# Altium footprint library Test Point and Jumper.PcbLib: 34 footprints (part 2 of 3)
Each footprint in its own frame and in the unit in brackets; x right, y up, seen from the top. Pads: shape width x height; smd on the part's side, far side on the other; paste and mask are expansions set on the pad; w line width, h text height; cw(c..) or ccw(c..) is an arc to the next point about the centre after c.
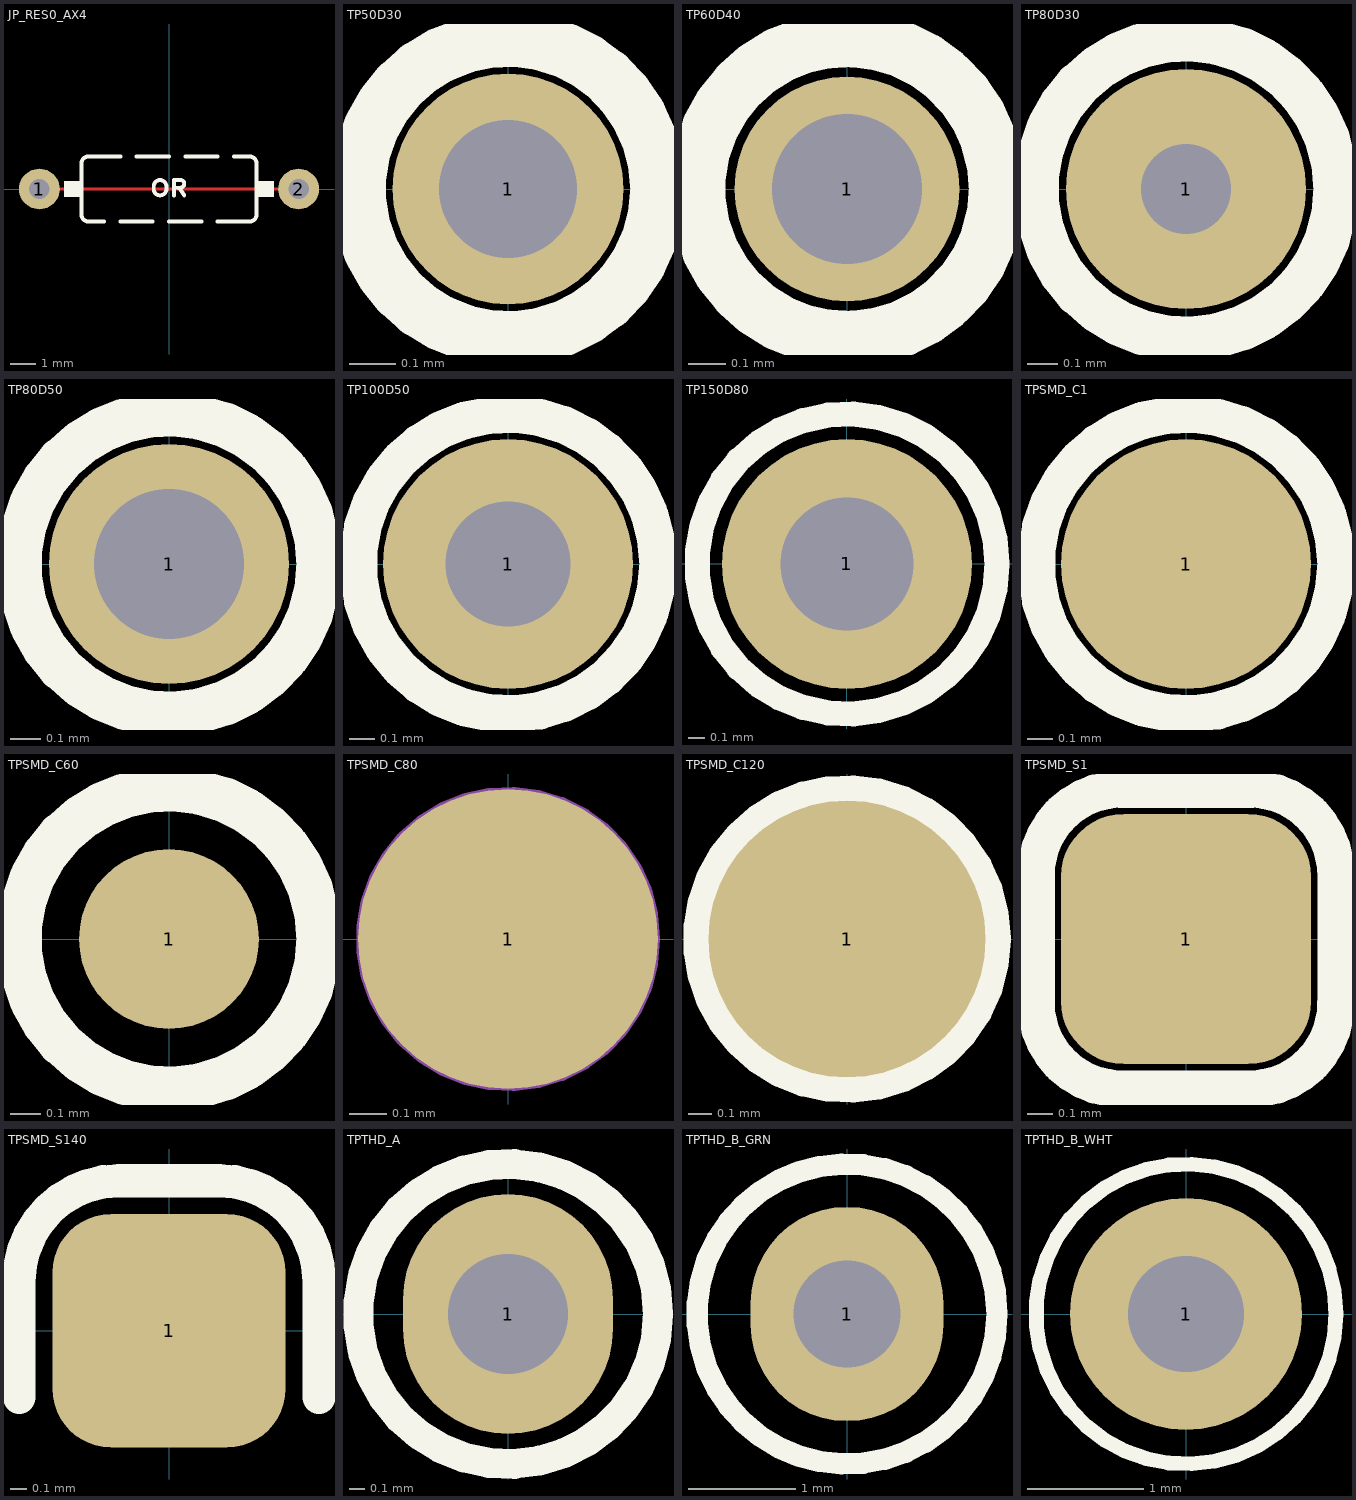
[diagram p1: the footprints below, top view; thin cyan lines are the x and y axes]

## JP_RES0_AX4 [mil] "0 Ohm Jumper Resistor"
pads (2):
  round 63 hole 31.5: 1(-200,0) 2(200,0)
Top Layer:
  lines w3.94: -200,0 200,0
Top Overlay:
  rectangle: -162,-12 -135,12
  rectangle: 135,-12 162,12
  lines w5.91: 7.87,-9.84 7.87,13.78 17.72,13.78 cw(c17.72,7.87) 23.62,7.87 cw(c17.72,7.87) 17.72,1.97 7.87,1.97 ; 11.81,1.97 cw(c11.81,-5.91) 17.38,-0.34 23.62,-9.84 ; -23.62,0 ccw(c-13.78,0) -13.78,-9.84 ccw(c-13.78,0) -3.94,0 -3.94,3.94 ccw(c-13.78,3.94) -13.78,13.78 ccw(c-13.78,3.94) -23.62,3.94 -23.62,0
  lines w6: -100,-50 -125,-50 cw(c-125,-40) -135,-40 -135,40 cw(c-125,40) -125,50 -75,50 ; -75,-50 -25,-50 ; -50,50 0,50 ; 0,-50 50,-50 ; 25,50 75,50 ; 75,-50 125,-50 ccw(c125,-40) 135,-40 135,40 ccw(c125,40) 125,50 100,50
3D body "SW3dPS-AXIAL_RESISTOR(0.25W).STEP": height 102.36, standoff -59.06, extent -215.74,-47.24 215.75,47.25

## TP50D30 [mm] "TEST POINT 0.5mm WITH 0.3 mm Hole Diameter"
height 7.62
pads (1):
  round 0.5 hole 0.3 mask+0.025: 1(0,0)
Top Overlay:
  circle w0.12: c0,0 r0.325

## TP60D40 [mm] "TEST POINT 0.6mm WITH 0.4 mm Hole Diameter"
pads (1):
  round 0.6 hole 0.4 mask+0.025: 1(0,0)
Top Overlay:
  circle w0.15: c0,0 r0.4

## TP80D30 [mm] "TEST POINT 0.8mm WITH 0.3 mm Hole Diameter"
pads (1):
  round 0.8 / inner round 0.5 / far side round 0.5 hole 0.3 mask+0.025: 1(0,0)
Top Overlay:
  circle w0.15: c0,0 r0.5

## TP80D50 [mm]
pads (1):
  round 0.8 hole 0.5 mask+0.025: 1(0,0)
Top Overlay:
  circle w0.15: c0,0 r0.5

## TP100D50 [mm]
pads (1):
  round 1 hole 0.5 mask+0.025: 1(0,0)
Top Overlay:
  circle w0.15: c0,0 r0.6

## TP150D80 [mm] "TEST POINT 1.5mm WITH 0.8 mm Hole Diameter"
pads (1):
  round 1.5 hole 0.8 mask+0.075: 1(0,0)
Top Overlay:
  circle w0.15: c0,0 r0.9

## TPSMD_C1 [mm] "Test Point, SMD Pad, Circle, 1mm X 1mm"
pads (1):
  round 1 smd paste-1.016 mask+0.025: 1(0,0)
Top Overlay:
  circle w0.15: c0,0 r0.6

## TPSMD_C60 [mm] "Test Point, SMD Pad, Circle, 0.6mm X 0.6mm"
pads (1):
  round 0.6 smd paste-0.635 mask+0.051: 1(0,0)
Top Overlay:
  circle w0.15: c0,0 r0.5

## TPSMD_C80 [mm] "Test Point, SMD Pad, Circle, 0.8mm X 0.8mm"
pads (1):
  round 0.8 smd paste-0.762 mask+0.076: 1(0,0)
Mechanical 13:
  circle w0.05: c0,0 r0.381

## TPSMD_C120 [mm] "Test Point, SMD Pad, Circle, 1.2mm X1.2mm"
height 7.62
pads (1):
  round 1.2 smd mask+0: 1(0,0)
Top Overlay:
  circle w0.12: c0,0 r0.65

## TPSMD_S1 [mm] "Test Point, SMD Pad, Circle, 1mm X 1mm"
pads (1):
  rrect50% 1x1 smd paste-1.016 mask+0.025: 1(0,0)
Top Overlay:
  lines w0.15: -0.6,-0.259 ccw(c-0.259,-0.259) -0.259,-0.6 0.259,-0.6 ccw(c0.259,-0.259) 0.6,-0.259 0.6,0.259 ccw(c0.259,0.259) 0.259,0.6 -0.259,0.6 ccw(c-0.259,0.259) -0.6,0.259 -0.6,-0.259

## TPSMD_S140 [mm] "Test Point, SMD Pad, Square, 1.4mm X1.4mm"
height 2
pads (1):
  rrect50% 1.4x1.4 smd mask+0.1: 1(0,0)
Top Overlay:
  lines w0.2: -0.9,-0.4 -0.9,0.3 cw(c-0.3,0.3) -0.3,0.9 0.3,0.9 cw(c0.3,0.3) 0.9,0.3 0.9,-0.4

## TPTHD_A [mm] "TEST POINT, SMALLEST SIZE"
pads (1):
  oval 1.4x1.6 hole 0.8: 1(0,0)
Top Overlay:
  circle w0.2: c0,0 r1
3D body "SW3DPS-TEST POINT-DEFAULT.step": height 6.5, standoff -3, extent -0.5,-0.5 0.5,0.5

## TPTHD_B_GRN [mm] "TEST POINT KEYSTONE 2.5mm WITH 1 mm Hole Diameter"
pads (1):
  oval 1.8x2 hole 1 mask+0.1: 1(0,0)
Top Overlay:
  circle w0.2: c0,0 r1.4
3D body "User Library-Test Point Keystone - 5116 GREEN.STEP": height 4.67, standoff -2.95, extent -1.27,-1.27 1.27,1.27

## TPTHD_B_WHT [mm] "TEST POINT KEYSTONE 2.5mm WITH 1 mm Hole Diameter"
height 4.6
pads (1):
  round 2 hole 1: 1(0,0)
Top Overlay:
  circle w0.127: c0,0 r1.295
Mechanical 13:
  circle w0.076: c0,0 r0.76
3D body "TestPoint_Mini.stp": height 4.58, standoff -3, extent -1.24,-1.247 1.25,1.248